# Altium schematic symbol library 0805 1K.Schlib: 1 symbol
Pins are listed as number, name and electrical type; pins without a type are passive.

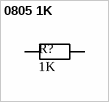
[diagram p0: symbol 0805 1K]

## 0805 1K
designator R?, comment value 1K  (hidden comment: Resistor)
Chip Resistor - Surface Mount 1KOhms ±1% 1/8W 0805 RoHS; LCSC Part #: C17513
footprint RES 0805_2012 (Chip Resistor, 2-Leads, Body 2.00x1.25mm, IPC Medium Density)
pins: 1, 2